# EAGLE library part XF2L-2625-1A (library OMRON_ELECTRONIC_COMPONENTS_By_element14_Batch_1)
FFC/FPC CONNECTOR, RECEPTACLE 26POS 1ROW
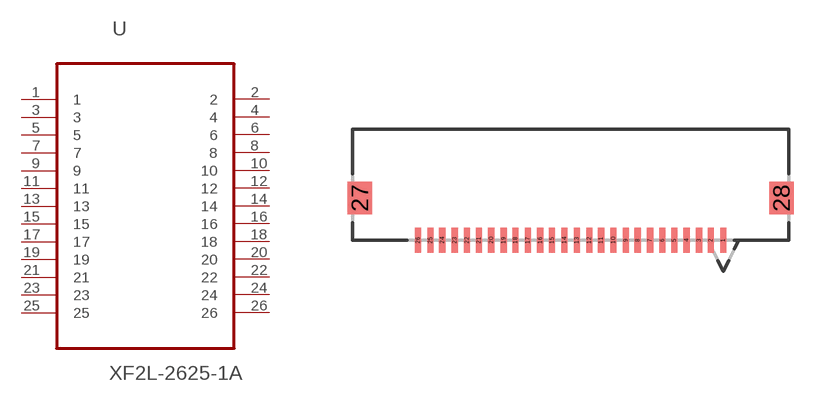
[diagram p2: symbol with the pads of OMRON_XF2L-2625-1A; footprint OMRON_XF2L-2625-1A]

Designator prefix U

## XF2L-2625-1A (MPN: XF2L-2625-1A; OC_FARNELL: -; OC_NEWARK: 05M2006; PACKAGE: FFC/FPC CONNECTOR, RECEPTACLE 26POS 1ROW; SUPPLIER: OMRON ELECTRONIC COMPONENTS)  [OMRON_XF2L-2625-1A]
1  1  pas
2  2  pas
3  3  pas
4  4  pas
5  5  pas
6  6  pas
7  7  pas
8  8  pas
9  9  pas
10  10  pas
11  11  pas
12  12  pas
13  13  pas
14  14  pas
15  15  pas
16  16  pas
17  17  pas
18  18  pas
19  19  pas
20  20  pas
21  21  pas
22  22  pas
23  23  pas
24  24  pas
25  25  pas
26  26  pas

## Footprint OMRON_XF2L-2625-1A (pad centres in mm)
smd 0.254 x 1.016: 1 6.248,2.286; 2 5.74,2.286; 3 5.258,2.286; 4 4.75,2.286; 5 4.242,2.286; 6 3.759,2.286; 7 3.251,2.286; 8 2.743,2.286; 9 2.261,2.286; 10 1.753,2.286; 11 1.245,2.286; 12 0.762,2.286; 13 0.254,2.286; 14 -0.254,2.286; 15 -0.762,2.286; 16 -1.245,2.286; 17 -1.753,2.286; 18 -2.261,2.286; 19 -2.743,2.286; 20 -3.251,2.286; 21 -3.759,2.286; 22 -4.242,2.286; 23 -4.75,2.286; 24 -5.258,2.286; 25 -5.74,2.286; 26 -6.248,2.286
smd 1.016 x 1.346: 27 -8.636,4.013; 28 8.636,4.013